# Altium footprint library HTSSOP-16_0.PcbLib: 1 footprints
Each footprint in its own frame and in the unit in brackets; x right, y up, seen from the top. Pads: shape width x height; smd on the part's side, far side on the other; paste and mask are expansions set on the pad; w line width, h text height; cw(c..) or ccw(c..) is an arc to the next point about the centre after c.
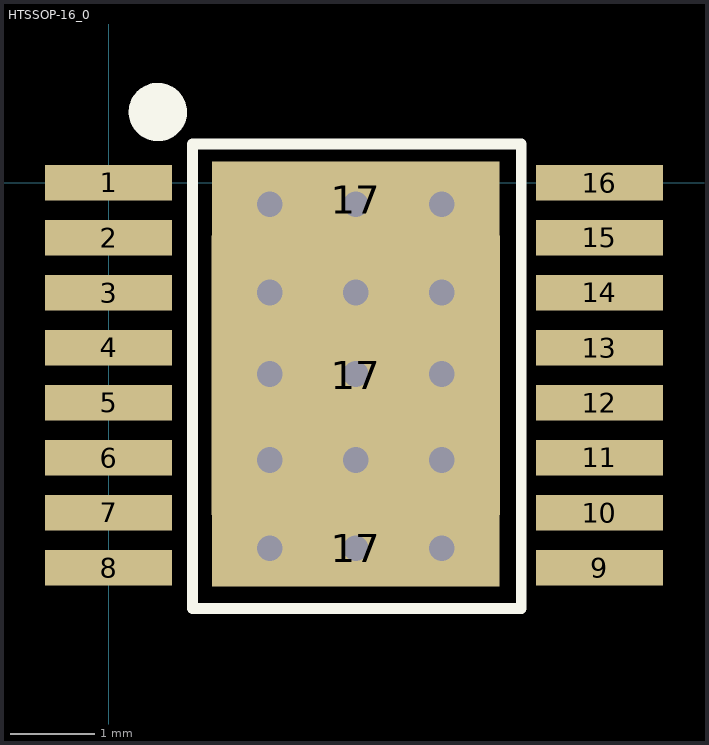
[diagram p0: the footprint, top view; thin cyan lines are the x and y axes]

## HTSSOP-16_0 [mm]
pads (19):
  rect 1.5x0.42 smd mask+0.051: 1(0,0) 2(0,-0.65) 3(0,-1.3) 4(0,-1.95) 5(0,-2.6) 6(0,-3.25) 7(0,-3.9) 8(0,-4.55) 9(5.8,-4.55) 10(5.8,-3.9) 11(5.8,-3.25) 12(5.8,-2.6) 13(5.8,-1.95) 14(5.8,-1.3) 15(5.8,-0.65) 16(5.8,0)
  rect 3.4x0.9 smd: 17(2.921,-4.318) 17(2.921,-0.2)
  rect 3.404x3.302 smd mask-0.051: 17(2.921,-2.275)
via 2.921,-4.318 diameter 0.61 hole 0.305
via 1.905,-4.318 diameter 0.61 hole 0.305
via 3.937,-4.318 diameter 0.61 hole 0.305
via 2.921,-3.277 diameter 0.61 hole 0.305
via 1.905,-3.277 diameter 0.61 hole 0.305
via 3.937,-3.277 diameter 0.61 hole 0.305
via 2.921,-1.295 diameter 0.61 hole 0.305
via 1.905,-1.295 diameter 0.61 hole 0.305
via 3.937,-1.295 diameter 0.61 hole 0.305
via 2.921,-2.261 diameter 0.61 hole 0.305
via 1.905,-2.261 diameter 0.61 hole 0.305
via 3.937,-2.261 diameter 0.61 hole 0.305
via 3.937,-0.254 diameter 0.61 hole 0.305
via 1.905,-0.254 diameter 0.61 hole 0.305
via 2.921,-0.254 diameter 0.61 hole 0.305
Top Overlay:
  lines w0.127: 0.991,-5.029 0.991,0.457 3.215,0.457 4.877,0.457 4.877,-5.029 0.991,-5.029
  lines w0.381: 0.737,0.838 cw(c0.583,0.837) 0.736,0.845
3D body "TSSOP-16.stp": height 1.11, standoff 0.01, extent -0.294,-4.81 6.137,0.289